# Altium footprint library transistor-power.PCBLIB: 90 footprints (part 1 of 6)
Each footprint in its own frame and in the unit in brackets; x right, y up, seen from the top. Pads: shape width x height; smd on the part's side, far side on the other; paste and mask are expansions set on the pad; w line width, h text height; cw(c..) or ccw(c..) is an arc to the next point about the centre after c.
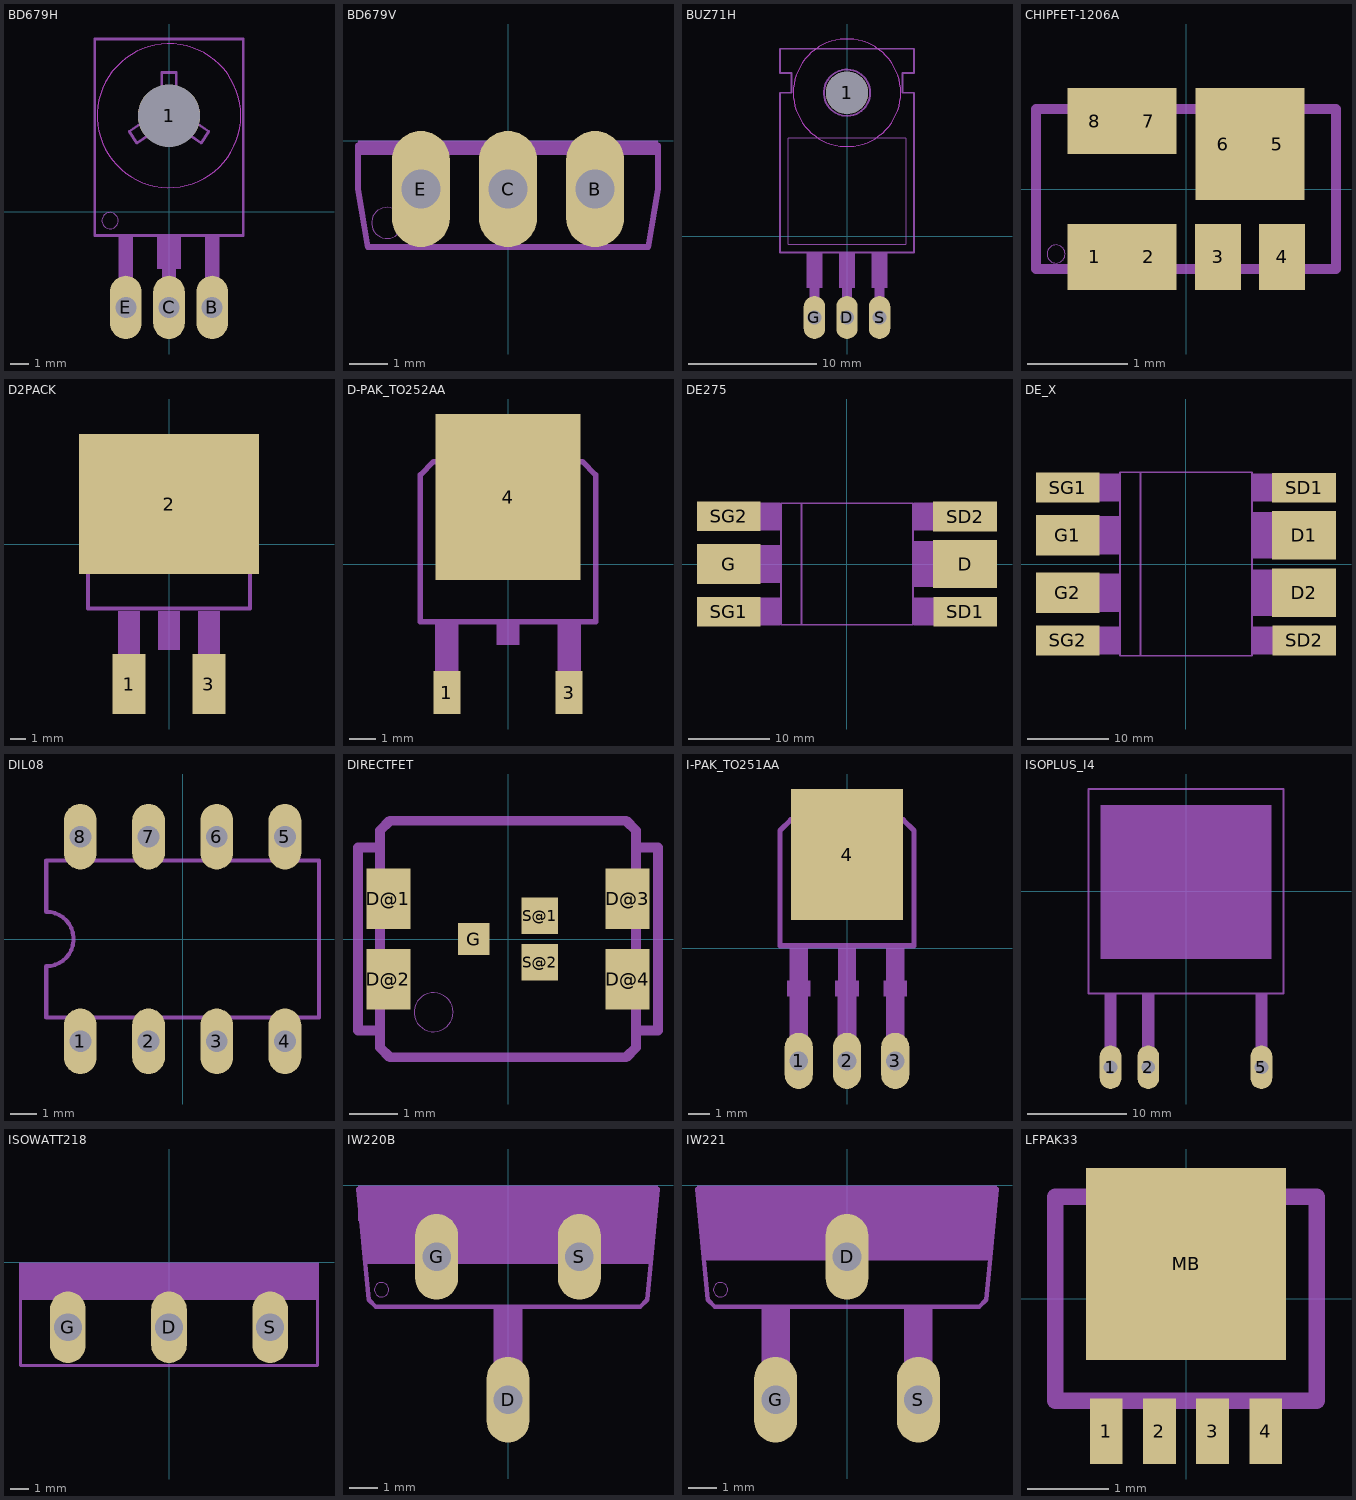
[diagram p0: the footprints below, top view; thin cyan lines are the x and y axes]

## BD679H [mil]
pads (4):
  round 130 hole 130: 1(0,200)
  oval 66x132 hole 44: B(90,-200) C(0,-200) E(-90,-200)
Mechanical 2:
  circle w0: c-123,-19 r17
  circle w6: c0,200 r57
  rectangle: -25,-120 25,-50
  rectangle: -105,-135 -75,-50
  rectangle: -15,-135 15,-50
  rectangle: 75,-135 105,-50
  lines w6: 59,196 58,184 83,167 67,143 44,159 36,152 30,148 22,144 10,141 -2,140 -16,142 -26,146 -34,151 -43,159 -67,143 -83,167 -58,184 -60,196 -60,205 -58,215 -54,226 -47,237 -36,248 -23,256 -15,258 -15,290 15,290 15,258 20,257 28,253 36,248 43,242 49,234 54,225 57,217 59,206 59,197 ; -155,-50 -155,360 155,360 155,-50 -155,-50
Mechanical 11 keep-out:
  circle w0: c0,200 r150
Mechanical 12:
  circle w0: c0,200 r150
Mechanical 18:
  rectangle: -105,-205 -75,-135
  rectangle: -15,-205 15,-135
  rectangle: 75,-205 105,-135

## BD679V [mil]
pads (3):
  oval 60x120 hole 40: B(90,-50) C(0,-50) E(-90,-50)
Mechanical 2:
  circle w0: c-125,-85 r16
  rectangle: -155,-15 -125,0
  rectangle: -55,-15 -35,0
  rectangle: 35,-15 55,0
  rectangle: 125,-15 155,0
  lines w6: -155,-5 -155,-50 -145,-110 -110,-110 ; -70,-110 -20,-110 ; 20,-110 70,-110 ; 110,-110 145,-110 155,-50 155,-5
Mechanical 18:
  rectangle: -125,-15 -55,0
  rectangle: -35,-15 35,0
  rectangle: 55,-15 125,0
  lines w6: -110,-110 -70,-110 ; -20,-110 20,-110 ; 70,-110 110,-110

## BUZ71H [mil]
pads (4):
  round 130 hole 130: 1(0,440)
  oval 66x132 hole 44: D(0,-250) G(-100,-250) S(100,-250)
Mechanical 2:
  circle w6: c0,440 r71
  rectangle: 85,-185 115,-160
  rectangle: -15,-185 15,-160
  rectangle: -115,-185 -85,-160
  rectangle: -125,-160 -75,-50
  rectangle: -25,-160 25,-50
  rectangle: 75,-160 125,-50
  lines w2: -180,-25 180,-25 180,300 -180,300 -180,-25
  lines w6: -205,-50 205,-50 205,440 170,440 170,500 205,500 205,575 -205,575 -205,500 -170,500 -170,440 -205,440 -205,-50
Mechanical 11 keep-out:
  circle w0: c0,440 r165
Mechanical 12:
  circle w0: c0,440 r165
Mechanical 18:
  rectangle: -115,-260 -85,-185
  rectangle: -15,-260 15,-185
  rectangle: 85,-260 115,-185

## CHIPFET-1206A [mil]
pads (8):
  rect 21.65x25.98 smd: 1(-35.83,-26.77) 2(-14.57,-26.77) 7(-14.57,26.77) 8(-35.83,26.77)
  rect 17.99x25.98 smd: 3(12.6,-26.77) 4(37.8,-26.77)
  rect 21.65x44.09 smd: 5(35.83,17.72) 6(14.57,17.72)
Mechanical 2:
  circle w0: c-51.18,-25.59 r3.55
  lines w4: -59.06,-31.5 -59.06,31.5 ; 59.06,-31.5 59.06,31.5
Mechanical 18:
  rectangle: -45.28,-37.4 -31.5,-20.67
  rectangle: -19.69,-37.4 -5.91,-20.67
  rectangle: 5.91,-37.4 19.69,-20.67
  rectangle: 31.5,-37.4 45.28,-20.67
  region: 45.28,37.4 31.5,37.4 31.5,20.67 45.28,20.67
  region: 19.69,37.4 5.91,37.4 5.91,20.67 19.69,20.67
  region: -5.91,37.4 -19.69,37.4 -19.69,20.67 -5.91,20.67
  region: -31.5,37.4 -45.28,37.4 -45.28,20.67 -31.5,20.67
  lines w4: -59.06,-31.5 59.06,-31.5 ; -59.06,31.5 59.06,31.5

## D2PACK [mil]
pads (3):
  rect 82x150 smd: 1(-100,-350) 3(100,-350)
  rect 450x350 smd: 2(0,100)
Mechanical 2:
  rectangle: -128,-265 -72,-167
  rectangle: 72,-265 128,-167
  rectangle: -28,-265 28,-167
  lines w10: -202,-91 -202,-161 202,-161 202,-91
Mechanical 18:
  rectangle: -122,-375 -78,-319
  rectangle: -128,-321 -72,-265
  rectangle: 78,-375 122,-319
  rectangle: 72,-321 128,-265
  lines w10: -202,-161 -202,175 ; 202,-161 202,175 ; -202,175 -202,185 -133,229 123,229 202,175 ; -202,175 202,175

## D-PAK_TO252AA [mm]
pads (3):
  rect 1x1.6 smd: 1(-2.28,-4.8) 3(2.28,-4.8)
  rect 5.4x6.2 smd: 4(0,2.5)
Mechanical 2:
  rectangle: -0.432,-3.023 0.432,-2.261
  lines w0.203: -3.275,-2.15 3.275,-2.15 3.275,3.325 2.775,3.825 -2.775,3.825 -3.275,3.325 -3.275,-2.15
Mechanical 18:
  rectangle: -2.718,-5.156 -1.854,-2.261
  rectangle: 1.854,-5.156 2.718,-2.261
  region: 0,0 0.254,0 0.254,0.254 0,0.254
  lines w0.203: -2.565,3.937 -2.565,4.648 -2.108,5.105 2.108,5.105 2.565,4.648 2.565,3.937 -2.565,3.937

## DE275 [mil]
pads (6):
  rect 310x235 smd: D(574.5,0)
  rect 310x195 smd: G(-574.5,0)
  rect 310x145 smd: SD1(575,-232) SD2(574.5,231) SG1(-574.5,-232) SG2(-574.5,232)
Mechanical 2:
  lines w8: -221,-296 321,-296 321,296 -221,296 ; -221,-296 -321,-296 -321,296 -221,296 ; -221,-296 -221,296
Mechanical 18:
  rectangle: -725,163 -325,300
  rectangle: -725,-93 -325,93
  rectangle: -725,-300 -325,-163
  rectangle: 325,163 725,300
  rectangle: 325,-113 725,113
  rectangle: 325,-300 725,-163

## DE_X [mil]
pads (8):
  rect 310x235 smd: D1(574.5,140) D2(574.5,-140)
  rect 310x195 smd: G1(-574.5,140) G2(-574.5,-140)
  rect 310x145 smd: SD1(574.5,371) SD2(575,-372) SG1(-574.5,372) SG2(-574.5,-372)
Mechanical 2:
  lines w8: -221,-446 321,-446 321,446 -221,446 ; -221,-446 -321,-446 -321,446 -221,446 ; -221,-446 -221,446
Mechanical 18:
  rectangle: -725,303 -325,440
  rectangle: -725,-233 -325,-47
  rectangle: -725,-440 -325,-303
  rectangle: 325,303 725,440
  rectangle: 325,-253 725,-27
  rectangle: 325,-440 725,-303
  rectangle: -725,47 -325,233
  rectangle: 325,27 725,253

## DIL08 [mil]
pads (8):
  oval 48x96 hole 32: 1(-150,-150) 2(-50,-150) 3(50,-150) 4(150,-150) 5(150,150) 6(50,150) 7(-50,150) 8(-150,150)
Mechanical 2:
  lines w6: -200,-115 200,-115 200,115 -200,115 -200,40 cw(c-200,0) -200,-40 -200,-115

## DIRECTFET [mm]
pads (7):
  rect 0.9x1.25 smd: D@1(-2.45,0.825) D@2(-2.45,-0.825) D@3(2.45,0.825) D@4(2.45,-0.825)
  rect 0.65x0.65 smd: G(-0.7,0)
  rect 0.75x0.75 smd: S@1(0.65,0.475) S@2(0.65,-0.475)
Mechanical 2:
  circle w0: c-1.525,-1.5 r0.4
  lines w0.203: -3.075,-1.875 -2.625,-1.875 -2.625,-2.225 -2.425,-2.425 2.425,-2.425 2.625,-2.225 2.625,-1.875 3.075,-1.875 3.075,1.875 2.625,1.875 2.625,2.225 2.425,2.425 -2.425,2.425 -2.625,2.225 -2.625,1.875 -3.075,1.875 -3.075,-1.875
Mechanical 18:
  lines w0.203: -2.625,-1.875 -2.625,1.875 ; 2.625,-1.875 2.625,1.875

## I-PAK_TO251AA [mil]
pads (4):
  oval 52.5x105 hole 35: 1(-90,-210) 2(0,-210) 3(90,-210)
  rect 210x245 smd: 4(0,175)
Mechanical 2:
  rectangle: -22,-90 22,-60
  rectangle: -17,-60 17,0
  rectangle: -112,-90 -68,-60
  rectangle: 68,-90 112,-60
  rectangle: -107,-60 -73,0
  rectangle: 73,-60 107,0
  lines w10: -100,240 100,240 ; -100,240 -105,240 -125,220 -125,5 125,5 125,220 105,240 100,240 ; -100,240 -100,270 -65,290 65,290 100,270 100,240
  lines w35: -90,-120 -90,-90 ; 0,-120 0,-90 ; 90,-120 90,-90
Mechanical 18:
  lines w35: -90,-210 -90,-120 ; 0,-210 0,-120 ; 90,-210 90,-120

## ISOPLUS_I4 [mil]
pads (3):
  oval 86.61x173.22 hole 55.12: 1(-300,-700) 2(-150,-700) 5(300,-700)
Mechanical 2:
  region: 323.82,-407.48 275.59,-407.48 275.59,-600.39 323.82,-600.39
  region: -125,-407.48 -174.21,-407.48 -174.21,-599.41 -125,-599.41
  region: -275.59,-407.48 -323.82,-407.48 -323.82,-600.39 -275.59,-600.39
  lines w8: -387.8,-406.5 387.8,-406.5 387.8,406.5 -387.8,406.5 -387.8,-406.5
Mechanical 18:
  rectangle: -323.82,-713.58 -275.59,-600.39
  rectangle: -174.21,-713.58 -125,-599.41
  rectangle: 275.59,-713.58 323.82,-600.39
  rectangle: -340.55,-269.69 340.55,342.52

## ISOWATT218 [mil]
pads (3):
  oval 76x152 hole 59.06: D(0,-137.8) G(-215,-137.8) S(215,-137.8)
Mechanical 2:
  rectangle: -318.9,-45 318.9,0
  rectangle: -140,-80 -75,-45
  rectangle: 75,-80 140,-45
  rectangle: -318.9,-80 -285,-45
  rectangle: 285,-80 318.9,-45
  lines w6: -315.94,-78.74 -315.94,-219.49 315.94,-219.49 315.94,-77.76
Mechanical 18:
  rectangle: 140,-80 285,-45
  rectangle: -285,-80 -140,-45
  rectangle: -75,-80 75,-45

## IW220B [mil]
pads (3):
  oval 60x120 hole 40: D(0,-300) G(-100,-100) S(100,-100)
Mechanical 2:
  circle w0: c-177,-146 r10
  rectangle: -210,-30 210,0
  rectangle: -210,-50 -135,-30
  rectangle: -20,-245 20,-170
  rectangle: -65,-50 65,-30
  rectangle: 155,-110 200,-50
  rectangle: 135,-50 205,-30
  rectangle: 200,-75 205,-50
  rectangle: -45,-110 45,-50
  rectangle: -200,-110 -155,-50
  rectangle: -205,-75 -200,-50
  lines w6: -210,-5 -195,-160 -185,-170 185,-170 195,-160 210,-5
Mechanical 18:
  rectangle: -135,-50 -65,-30
  rectangle: 65,-50 135,-30
  rectangle: -20,-300 20,-245
  rectangle: 45,-110 155,-50
  rectangle: -155,-110 -45,-50

## IW221 [mil]
pads (3):
  oval 60x120 hole 40: D(0,-100) G(-100,-300) S(100,-300)
Mechanical 2:
  circle w0: c-177,-146 r10
  rectangle: -210,-30 210,0
  rectangle: -120,-245 -80,-170
  rectangle: 80,-245 120,-170
  rectangle: 35,-50 205,-30
  rectangle: 55,-105 200,-50
  rectangle: -200,-105 -55,-50
  rectangle: -205,-50 -35,-30
  rectangle: 200,-80 205,-50
  rectangle: -205,-80 -200,-50
  lines w6: -210,-5 -195,-160 -185,-170 185,-170 195,-160 210,-5
Mechanical 18:
  rectangle: -35,-50 35,-30
  rectangle: -120,-300 -80,-245
  rectangle: 80,-300 120,-245
  rectangle: -55,-105 55,-50

## LFPAK33 [mil]
pads (5):
  rect 15.75x31.5 smd: 1(-38.39,-63.98) 2(-12.8,-63.98) 3(12.8,-63.98) 4(38.39,-63.98)
  rect 96.46x92.52 smd: MB(0,16.73)
Mechanical 2:
  lines w8: -62.99,-49.21 -62.99,49.21 ; 62.99,-49.21 62.99,49.21
Mechanical 18:
  rectangle: -45.28,53.15 -31.5,62.99
  rectangle: -45.28,-70.87 -31.5,-53.15
  rectangle: -19.69,53.15 -5.91,62.99
  rectangle: -19.69,-70.87 -5.91,-53.15
  rectangle: 5.91,53.15 19.69,62.99
  rectangle: 5.91,-70.87 19.69,-53.15
  rectangle: 31.5,53.15 45.28,62.99
  rectangle: 31.5,-70.87 45.28,-53.15
  lines w8: -62.99,-49.21 62.99,-49.21 ; -62.99,49.21 62.99,49.21